# Altium schematic symbol library Shield_Cover.Schlib: 1 symbol
Pins are listed as number, name and electrical type; pins without a type are passive.

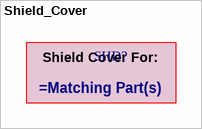
[diagram p0: symbol Shield_Cover]

## Shield_Cover
designator SHD?
Shield Cover
text: Shield Cover For: